# Altium footprint library footprints.PcbLib: 154 footprints (part 4 of 10)
Each footprint in its own frame and in the unit in brackets; x right, y up, seen from the top. Pads: shape width x height; smd on the part's side, far side on the other; paste and mask are expansions set on the pad; w line width, h text height; cw(c..) or ccw(c..) is an arc to the next point about the centre after c.
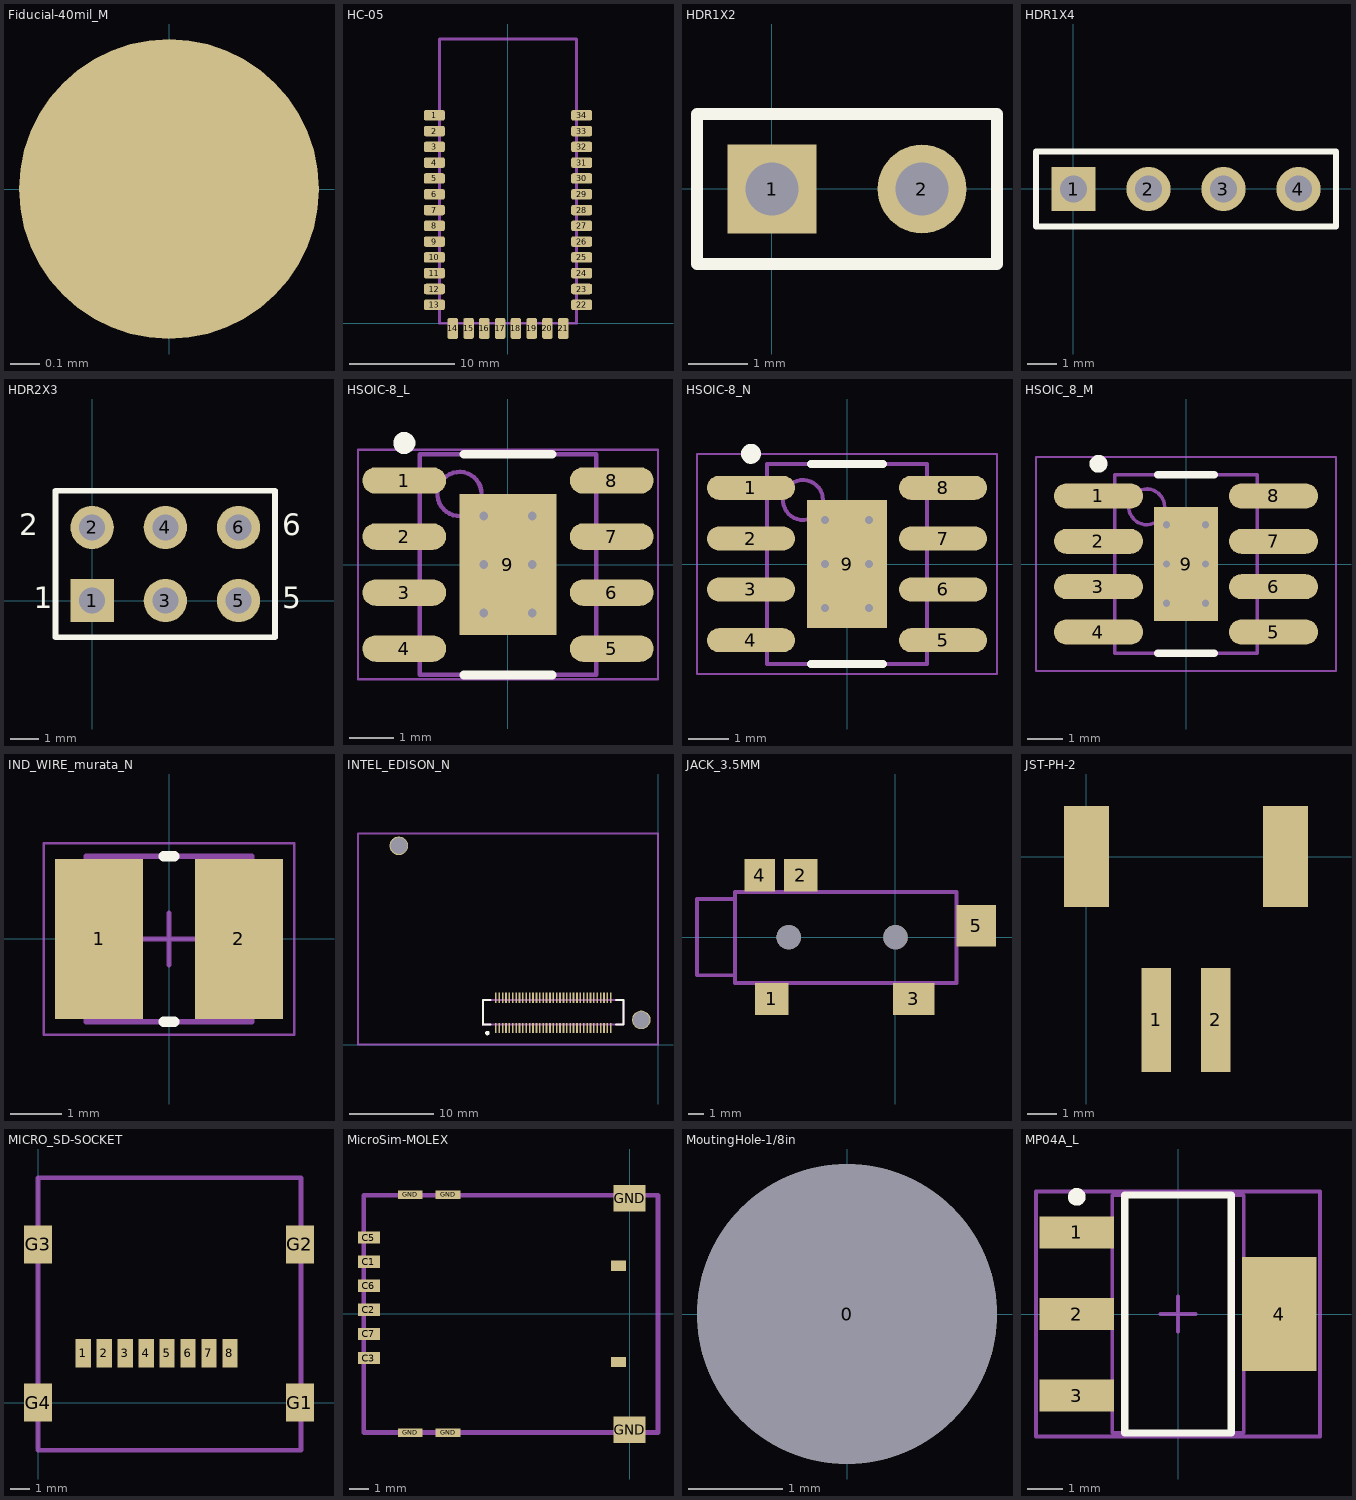
[diagram p3: the footprints below, top view; thin cyan lines are the x and y axes]

## Fiducial-40mil_M [mil]
pads (1):
  round 40 smd mask+20: ""(0,0)

## HC-05 [mm]
pads (34):
  rrect40% 2x1 smd: 1(-7,19.75) 2(-7,18.25) 3(-7,16.75) 4(-7,15.25) 5(-7,13.75) 6(-7,12.25) 7(-7,10.75) 8(-7,9.25) 9(-7,7.75) 10(-7,6.25) 11(-7,4.75) 12(-7,3.25) 13(-7,1.75) 22(7,1.75) 23(7,3.25) 24(7,4.75) 25(7,6.25) 26(7,7.75) 27(7,9.25) 28(7,10.75) 29(7,12.25) 30(7,13.75) 31(7,15.25) 32(7,16.75) 33(7,18.25) 34(7,19.75)
  rrect40% 1x2 smd: 14(-5.25,-0.5) 15(-3.75,-0.5) 16(-2.25,-0.5) 17(-0.75,-0.5) 18(0.75,-0.5) 19(2.25,-0.5) 20(3.75,-0.5) 21(5.25,-0.5)
Mechanical 13:
  lines w0.254: -6.5,0 -6.5,27 6.5,27 6.5,0 -6.5,0
3D body: height 2.4, standoff -0.04, extent -6.425,-0.05 6.577,26.851

## HDR1X2 [mm] "Connector; Header; 2 Position"
pads (2):
  rect 1.5x1.5 hole 0.9: 1(0,0)
  round 1.5 hole 0.9: 2(2.54,0)
Top Overlay:
  lines w0.2: -1.27,-1.27 3.81,-1.27 3.81,1.27 -1.27,1.27 -1.27,-1.27

## HDR1X4 [mm] "Connector; Header; 4 Position"
pads (4):
  rect 1.5x1.5 hole 0.9: 1(0,0)
  round 1.5 hole 0.9: 2(2.54,0) 3(5.08,0) 4(7.62,0)
Top Overlay:
  lines w0.2: -1.27,-1.27 8.89,-1.27 8.89,1.27 -1.27,1.27 -1.27,-1.27

## HDR2X3 [mm] "Connector; Header; 3x2 Position"
pads (6):
  rect 1.5x1.5 hole 0.9: 1(0,0)
  round 1.5 hole 0.9: 2(0,2.54) 3(2.54,0) 4(2.54,2.54) 5(5.08,0) 6(5.08,2.54)
Top Overlay:
  lines w0.2: 1.482,-1.27 6.35,-1.27 ; 6.35,-1.27 6.35,3.81 -1.27,3.81 -1.27,-1.27 6.35,-1.27
  text "6" at 6.604,2.032 h1.27
  text "5" at 6.604,-0.508 h1.27
  text "2" at -2.54,2.032 h1.27
  text "1" at -2.032,-0.508 h1.27

## HSOIC-8_L [mm] "SOIC, 8-Leads, Body 4,90x3,90mm, Pitch 1,27mm, Thermal Pad 3,20.2x2,20.2mm, IPC High Density"
height 1.7
pads (9):
  oval 1.9x0.6 smd: 1(-2.35,1.905) 2(-2.35,0.635) 3(-2.35,-0.635) 4(-2.35,-1.905) 5(2.35,-1.905) 6(2.35,-0.635) 7(2.35,0.635) 8(2.35,1.905)
  rect 2.2x3.2 smd: 9(0,0)
via -0.55,1.1 diameter 0.5 hole 0.2
via 0.55,1.1 diameter 0.5 hole 0.2
via -0.55,0 diameter 0.5 hole 0.2
via 0.55,0 diameter 0.5 hole 0.2
via -0.55,-1.1 diameter 0.5 hole 0.2
via 0.55,-1.1 diameter 0.5 hole 0.2
Top Overlay:
  circle w0.25: c-2.35,2.755 r0.125
  lines w0.2: -1,-2.5 1,-2.5 ; -1,2.5 1,2.5
Mechanical 13:
  circle w0.1: c-1.1,1.6 r0.5
  lines w0.1: -2,-2.5 -2,2.5 2,2.5 2,-2.5 -2,-2.5
Mechanical 15:
  lines w0.05: -3.4,-2.6 -3.4,2.6 3.4,2.6 3.4,-2.6 -3.4,-2.6
  lines w0.1: -0.5,0 0.5,0 ; 0,-0.5 0,0.5
3D body: height 1.7, standoff 0.17, extent -2,-2.5 2,2.5

## HSOIC-8_N [mm] "SOIC, 8-Leads, Body 4,90x3,90mm, Pitch 1,27mm, Thermal Pad 3,20.2x2,00.2mm, IPC Medium Density"
height 1.7
pads (9):
  oval 2.2x0.6 smd: 1(-2.4,1.905) 2(-2.4,0.635) 3(-2.4,-0.635) 4(-2.4,-1.905) 5(2.4,-1.905) 6(2.4,-0.635) 7(2.4,0.635) 8(2.4,1.905)
  rect 2x3.2 smd: 9(0,0)
via 0.55,-1.1 diameter 0.5 hole 0.2
via -0.55,-1.1 diameter 0.5 hole 0.2
via 0.55,0 diameter 0.5 hole 0.2
via -0.55,0 diameter 0.5 hole 0.2
via 0.55,1.1 diameter 0.5 hole 0.2
via -0.55,1.1 diameter 0.5 hole 0.2
Top Overlay:
  circle w0.25: c-2.4,2.755 r0.125
  lines w0.2: -0.9,-2.5 0.9,-2.5 ; -0.9,2.5 0.9,2.5
Mechanical 13:
  circle w0.1: c-1.1,1.6 r0.5
  lines w0.1: -2,-2.5 2,-2.5 2,2.5 -2,2.5 -2,-2.5
Mechanical 15:
  lines w0.05: -3.75,-2.75 3.75,-2.75 3.75,2.75 -3.75,2.75 -3.75,-2.75
  lines w0.1: -0.5,0 0.5,0 ; 0,-0.5 0,0.5
3D body: height 1.7, standoff 0.17, extent -2,-2.5 2,2.5

## HSOIC_8_M [mm] "SOIC, 8-Leads, Body 4,90x3,90mm, Pitch 1,27mm, Thermal Pad 3,20.2x1,80.2mm, IPC Low Density"
height 1.7
pads (9):
  oval 2.5x0.7 smd: 1(-2.45,1.905) 2(-2.45,0.635) 3(-2.45,-0.635) 4(-2.45,-1.905) 5(2.45,-1.905) 6(2.45,-0.635) 7(2.45,0.635) 8(2.45,1.905)
  rect 1.8x3.2 smd: 9(0,0)
via 0.55,-1.1 diameter 0.5 hole 0.2
via -0.55,-1.1 diameter 0.5 hole 0.2
via 0.55,0 diameter 0.5 hole 0.2
via -0.55,0 diameter 0.5 hole 0.2
via 0.55,1.1 diameter 0.5 hole 0.2
via -0.55,1.1 diameter 0.5 hole 0.2
Top Overlay:
  circle w0.25: c-2.45,2.805 r0.125
  lines w0.2: -0.8,-2.5 0.8,-2.5 ; -0.8,2.5 0.8,2.5
Mechanical 13:
  circle w0.1: c-1.1,1.6 r0.5
  lines w0.1: -2,-2.5 2,-2.5 2,2.5 -2,2.5 -2,-2.5
Mechanical 15:
  lines w0.05: -4.2,-3 4.2,-3 4.2,3 -4.2,3 -4.2,-3
  lines w0.1: -0.5,0 0.5,0 ; 0,-0.5 0,0.5
3D body: height 1.7, standoff 0.17, extent -2,-2.5 2,2.5

## IND_WIRE_murata_N [mm] "Precision Wire Wound Inductor, 2-Leads, Body 3.00x3.00mm, IPC Medium Density"
height 1.2
pads (2):
  rect 1.7x3.1 smd: 1(-1.35,0) 2(1.35,0)
Top Overlay:
  lines w0.2: -0.1,-1.6 0.1,-1.6 ; -0.1,1.6 0.1,1.6
Mechanical 13:
  lines w0.1: -1.6,-1.6 -1.6,1.6 1.6,1.6 1.6,-1.6 -1.6,-1.6
Mechanical 15:
  lines w0.05: -2.425,-1.85 -2.425,1.85 2.425,1.85 2.425,-1.85 -2.425,-1.85
  lines w0.1: -0.5,0 0.5,0 ; 0,-0.5 0,0.5
3D body: height 1.2, standoff 0, extent -1.6,-1.6 1.6,1.6

## INTEL_EDISON_N [mm]
pads (72):
  rect 0.2x1.2 smd: 1(-19.188,1.975) 2(-19.188,5.555) 3(-18.788,1.975) 4(-18.788,5.555) 5(-18.388,1.975) 6(-18.388,5.555) 7(-17.988,1.975) 8(-17.988,5.555) 9(-17.588,1.975) 10(-17.588,5.555) 11(-17.188,1.975) 12(-17.188,5.555) 13(-16.788,1.975) 14(-16.788,5.555) 15(-16.388,1.975) 16(-16.388,5.555) 17(-15.988,1.975) 18(-15.988,5.555) 19(-15.588,1.975) 20(-15.588,5.555) 21(-15.188,1.975) 22(-15.188,5.555) 23(-14.788,1.975) 24(-14.788,5.555) 25(-14.388,1.975) 26(-14.388,5.555) 27(-13.988,1.975) 28(-13.988,5.555) 29(-13.588,1.975) 30(-13.588,5.555) 31(-13.188,1.975) 32(-13.188,5.555) 33(-12.788,1.975) 34(-12.788,5.555) 35(-12.388,1.975) 36(-12.388,5.555) 37(-11.988,1.975) 38(-11.988,5.555) 39(-11.588,1.975) 40(-11.588,5.555) 41(-11.188,1.975) 42(-11.188,5.555) 43(-10.788,1.975) 44(-10.788,5.555) 45(-10.388,1.975) 46(-10.388,5.555) 47(-9.988,1.975) 48(-9.988,5.555) 49(-9.588,1.975) 50(-9.588,5.555) 51(-9.188,1.975) 52(-9.188,5.555) 53(-8.788,1.975) 54(-8.788,5.555) 55(-8.388,1.975) 56(-8.388,5.555) 57(-7.988,1.975) 58(-7.988,5.555) 59(-7.588,1.975) 60(-7.588,5.555) 61(-7.188,1.975) 62(-7.188,5.555) 63(-6.788,1.975) 64(-6.788,5.555) 65(-6.388,1.975) 66(-6.388,5.555) 67(-5.988,1.975) 68(-5.988,5.555) 69(-5.588,1.975) 70(-5.588,5.555)
  round 2.2 hole 2: ""(-30.67,23.53) ""(-1.98,2.93)
Top Overlay:
  circle w0.254: c-20.188,1.375 r0.141
  lines w0.254: -19.812,2.362 -20.676,2.362 -20.701,2.388 -20.701,5.258 -20.676,5.283 -19.812,5.283 ; -4.953,2.362 -4.089,2.362 -4.089,5.283 -4.953,5.283
Mechanical 13:
  lines w0.254: -35.5,0 0,0 0,25 -35.5,25 -35.5,0 ; -20.688,2.375 -20.688,5.275 -4.088,5.275 -4.088,2.375 -20.688,2.375
3D body: height 5.36, standoff 1.46, extent -35.56,-0.021 -0.06,25.465
3D body: height 2, standoff 0, extent -20.688,2.375 -4.088,5.275

## JACK_3.5MM [mm]
pads (7):
  rect 2.2x2.1 smd: 1(-8.1,-4.05) 2(-6.2,4.05)
  rect 2.7x2.1 smd: 3(1.2,-4.05)
  rect 2x2.1 smd: 4(-8.9,4.05)
  rect 2.6x2.7 smd: 5(5.3,0.75)
  round 1.6 hole 1.6: ""(-7,0) ""(0,0)
Mechanical 13:
  lines w0.254: -10.525,-2.5 -13,-2.5 -13,2.5 -10.5,2.5 ; -10.5,-3 4,-3 4,2.95 -10.5,2.95 -10.5,-3
3D body: height 5, standoff 0, extent -13,-3 4,2.95

## JST-PH-2 [mm]
pads (4):
  rect 1x3.5 smd: 1(2.35,-5.5) 2(4.35,-5.5)
  rect 1.5x3.4 smd: ""(0,0) ""(6.7,0)
3D body: height 4.8, standoff -2, extent 0.4,-7.15 6.3,0.45

## MICRO_SD-SOCKET [mm]
pads (12):
  rect 0.8x1.5 smd: 1(2.375,2.6) 2(3.475,2.6) 3(4.575,2.6) 4(5.675,2.6) 5(6.775,2.6) 6(7.875,2.6) 7(8.975,2.6) 8(10.075,2.6)
  rect 1.45x2 smd: G1(13.75,0) G2(13.75,8.3) G3(0,8.3) G4(0,0)
Mechanical 15:
  lines w0.254: 0,-2.5 13.8,-2.5 13.8,11.8 0,11.8 0,-2.4
3D body: height 1.67, standoff -0.06, extent -0.475,-3.65 14.125,12.35

## MicroSim-MOLEX [mm]
pads (14):
  rect 1.15x0.65 smd: C1(-13.73,2.755) C2(-13.73,0.215) C3(-13.73,-2.325) C5(-13.73,4.025) C6(-13.73,1.485) C7(-13.73,-1.055)
  rect 1.3x0.45 smd: GND(-11.56,-6.27) GND(-11.56,6.27) GND(-9.56,-6.27) GND(-9.56,6.27)
  rect 1.7x1.4 smd: GND(0,-6.11) GND(0,6.1)
  rect 0.8x0.54 smd: ""(-0.58,-2.54) ""(-0.58,2.54)
Mechanical 13:
  lines w0.254: -14,-6.25 -14,6.25 1.5,6.25 1.5,-6.25 -14,-6.25
3D body: height 0.5, standoff 0, extent -14,-6.25 1.5,6.25
3D body: height 1.45, standoff 0.5, extent -14,-6.25 1.5,6.25

## MoutingHole-1/8in [mm]
pads (1):
  round 3.175 hole 3.175: 0(0,0)

## MP04A_L [mm] "SOT223, 4-Leads, Body 6.5x3.5mm, Pitch 2.3mm, Lead Span 7mm, IPC High Density"
height 1.8
pads (4):
  rect 2.1x0.9 smd: 1(-2.85,2.3) 2(-2.85,0) 3(-2.85,-2.3)
  rect 2.1x3.2 smd: 4(2.85,0)
Top Overlay:
  circle w0.25: c-2.85,3.3 r0.125
  lines w0.2: -1.5,-3.35 1.5,-3.35 1.5,3.35 -1.5,3.35 -1.5,-3.35
Mechanical 13:
  lines w0.1: -1.85,-3.35 1.85,-3.35 1.85,3.35 -1.85,3.35 -1.85,-3.35
Mechanical 15:
  lines w0.1: -0.5,0 0.5,0 ; 0,-0.5 0,0.5 ; -4,-3.45 4,-3.45 4,3.45 -4,3.45 -4,-3.45
3D body: height 1.8, standoff 0, extent -1.85,-3.35 1.85,3.35